# Altium footprint library 15435385A9050.PcbLib: 1 footprints
Each footprint in its own frame and in the unit in brackets; x right, y up, seen from the top. Pads: shape width x height; smd on the part's side, far side on the other; paste and mask are expansions set on the pad; w line width, h text height; cw(c..) or ccw(c..) is an arc to the next point about the centre after c.
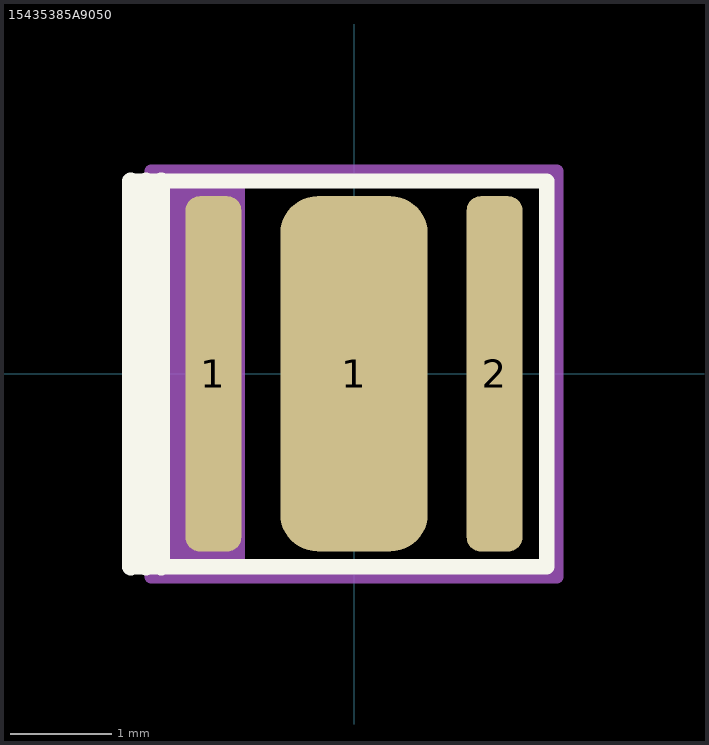
[diagram p0: the footprint, top view; thin cyan lines are the x and y axes]

## 15435385A9050 [mm]
pads (3):
  rrect50% 0.55x3.5 smd mask+0.05: 1(-1.385,0) 2(1.385,0)
  rrect50% 1.45x3.5 smd mask+0.05: 1(0,0)
Top Overlay:
  lines w0.15: -2.2,-1.9 1.9,-1.9 ; -2.2,1.9 1.9,1.9
  lines w0.152: 1.9,-1.9 1.9,1.9
  lines w0.17: -2.2,-1.9 -2.2,1.9 ; -2.05,-1.9 -2.05,1.9 ; -1.9,-1.9 -1.9,1.9
Top Assembly:
  rectangle: -1.926,-1.975 -1.075,1.925
  lines w0.127: -1.926,-1.925 1.924,-1.925 1.924,1.925 -1.926,1.925 -1.926,-1.925
Top Courtyard:
  lines w0.127: -2,-2.003 -2,2 2,2 2,-2.003 -2,-2.003
3D body "154353xxA9050.stp": height 2.56, standoff 0, extent -1.7,-1.7 1.7,1.7